# Altium integrated library 4 Pin Terminal Block HDR 5MM THT RA OQ0471510000G.IntLib: 1 symbol
Pins are listed as number, name and electrical type; pins without a type are passive.

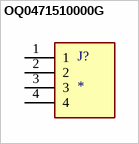
[diagram p0: symbol OQ0471510000G]

## OQ0471510000G
designator J?
Connector Shrouded Header HDR 5 Right Angle Through Hole 4Contact; MP: OQ0471510000G; MF: Amphenol Anytek; Purchase-URL: https://pricing.snapeda.com/search/part/OQ0471510000G/?ref=eda; Package: None; Price: None; Availability: Warning; Value: *; Check_prices: https://www.snapeda.com/parts/OQ0471510000G/Amphenol/view-part/4900937/?ref=eda; SnapEDA_Link: https://www.snapeda.com/parts/OQ0471510000G/Amphenol/view-part/4900937/?ref=snap
footprint AMPHENOL_OQ0471510000G
pins: 1, 2, 3, 4